# EAGLE library part 74HC4052 (library Public)
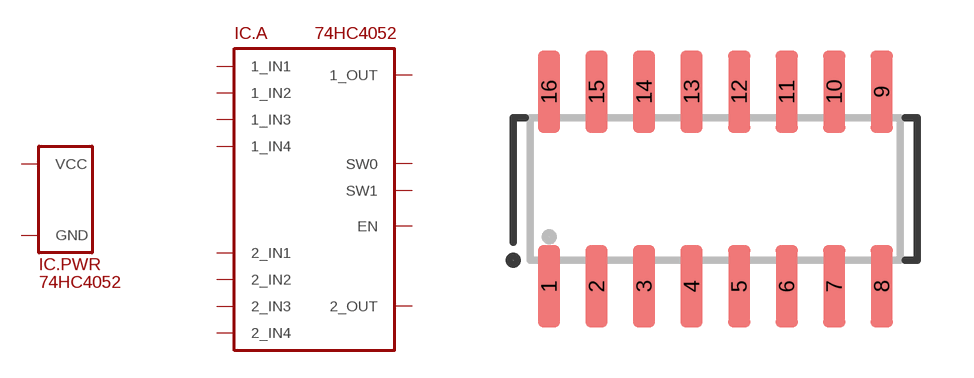
[diagram p44: symbol with the pads of SO16; footprint SO16]

Designator prefix IC; gates .PWR=SUPPLY_VCC/GND .A=74HC4052

## 74HC4052  [SO16]
1  .A:2_IN1
2  .A:2_IN3
3  .A:2_OUT
4  .A:2_IN4
5  .A:2_IN2
6  .A:EN
7  .PWR:GND
8  .PWR:GND
9  .A:SW1
10  .A:SW0
11  .A:1_IN4
12  .A:1_IN1
13  .A:1_OUT
14  .A:1_IN2
15  .A:1_IN3
16  .PWR:VCC

## Footprint SO16 (pad centres in mm)
smd 0.6 x 2.2: 1 -4.445,-2.6; 2 -3.175,-2.6; 3 -1.905,-2.6; 4 -0.635,-2.6; 5 0.635,-2.6; 6 1.905,-2.6; 7 3.175,-2.6; 8 4.445,-2.6; 9 4.445,2.6; 10 3.175,2.6; 11 1.905,2.6; 12 0.635,2.6; 13 -0.635,2.6; 14 -1.905,2.6; 15 -3.175,2.6; 16 -4.445,2.6